# Altium schematic symbol library texas_insturments_interface_LVDS.SchLib: 2 symbols
Pins are listed as number, name and electrical type; pins without a type are passive.

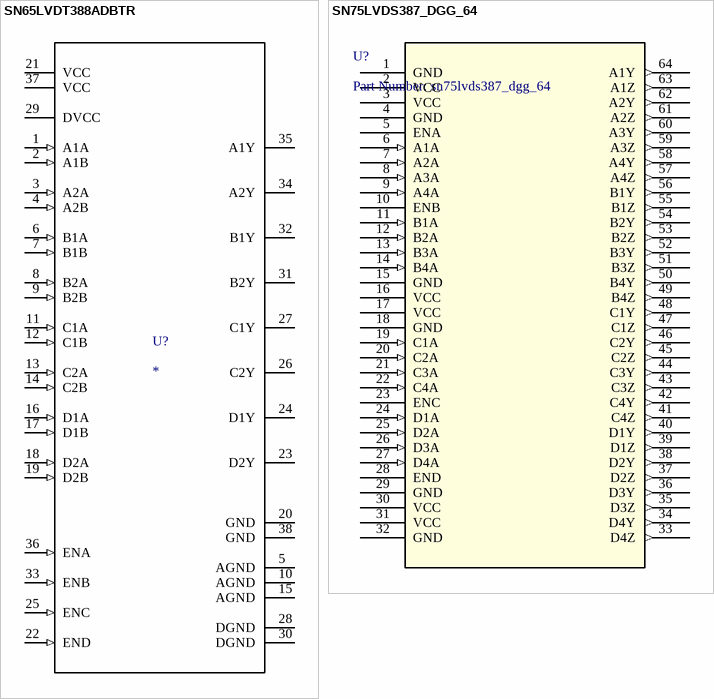
[diagram p0: symbols SN65LVDT388ADBTR to SN75LVDS387_DGG_64]

## SN65LVDT388ADBTR
designator U?
IC OCTAL LVDS RECEIVER 38-TSSOP; Manufacturer: Texas Instruments; PartNumber: SN65LVDT388ADBTR; Manufacturer Part Number: SN65LVDT388ADBT; Pricing1: Price Break  Unit Price  Extended Price  1  6.13000  $6.13  10  5.51000  $55.10  50  5.20880  $260.44  100  4.51430  $451.43  500  3.84290  $1,921.45  1,000  3.24100  $3,241.00  2,500  3.07895  $7,697.38 (CAD); RefDes: RefDes; Type: DEV; Value: Value; Copyright: Copyright (C) 2018 Accelerated Designs. All rights reserved; Manufacturer Link: http://www.ti.com/product/SN65LVDT388A?keyMatch=SN65LVDT388A&tisearch=Search-EN-Products; Supplier 1: Digikey; Supplier Part Number 1: 296-6899-5-ND; Supplier Link 1: https://www.digikey.com/products/en?mpart=SN65LVDT388ADBT&v=296; Stock1: 5,642
footprint DBT0038A_N
pins: 1 A1A (in), 2 A1B (in), 3 A2A (in), 4 A2B (in), 5 AGND (power), 6 B1A (in), 7 B1B (in), 8 B2A (in), 9 B2B (in), 10 AGND (power), 11 C1A (in), 12 C1B (in), 13 C2A (in), 14 C2B (in), 15 AGND (power), 16 D1A (in), 17 D1B (in), 18 D2A (in), 19 D2B (in), 20 GND (power), 21 VCC (power), 22 END (in), 23 D2Y (hiz), 24 D1Y (hiz), 25 ENC (in), 26 C2Y (hiz), 27 C1Y (hiz), 28 DGND (power), 29 DVCC (power), 30 DGND (power), 31 B2Y (hiz), 32 B1Y (hiz), 33 ENB (in), 34 A2Y (hiz), 35 A1Y (hiz), 36 ENA (in), 37 VCC (power), 38 GND (power)

## SN75LVDS387_DGG_64
designator U?, comment Part Number: sn75lvds387_dgg_64
16-Channel LVDS Transmitter; Manufacturer: Texas Instruments; Manufacturer Part Number: SN75LVDS387DGG; INDUSTRY_STD_PKG_TYPE: TSSOP; FAMILY_NAME: LVDS PHY (<800MBPS); PIN_COUNT: 64; PACKAGE_DESIGNATOR: DGG; Pricing1: Price Break  Unit Price  Extended Price  1  11.73000  $11.73  10  10.59500  $105.95  25  10.10240  $252.56  100  8.77180  $877.18  500  7.63840  $3,819.20  1,000  6.65280  $6,652.80 (CAD); Datasheet_URL: http://www.ti.com/lit/gpn/SN75LVDS387; GENERIC_PART_NUMBER: SN75LVDS387; Vendor: Texas Instruments; Manufacturer_Part_Number: sn75lvds387_dgg_64; Copyright: Copyright (C) 2018 Accelerated Designs. All rights reserved; RefDes: RefDes; Type: DEV; Value: Value; Manufacturer Link: http://www.ti.com/product/SN75LVDS387; Supplier 1: Digikey; Supplier Part Number 1: 296-2367-5-ND; Supplier Link 1: https://www.digikey.com/products/en?mpart=SN75LVDS387DGG&v=296; Stock1: 3,375
footprint DGG64
pins: 1 GND (power), 2 VCC (power), 3 VCC (power), 4 GND (power), 5 ENA, 6 A1A (in), 7 A2A (in), 8 A3A (in), 9 A4A (in), 10 ENB, 11 B1A (in), 12 B2A (in), 13 B3A (in), 14 B4A (in), 15 GND (power), 16 VCC (power), 17 VCC (power), 18 GND (power), 19 C1A (in), 20 C2A (in), 21 C3A (in), 22 C4A (in), 23 ENC, 24 D1A (in), 25 D2A (in), 26 D3A (in), 27 D4A (in), 28 END, 29 GND (power), 30 VCC (power), 31 VCC (power), 32 GND (power), 33 D4Z (out), 34 D4Y (out), 35 D3Z (out), 36 D3Y (out), 37 D2Z (out), 38 D2Y (out), 39 D1Z (out), 40 D1Y (out), 41 C4Z (out), 42 C4Y (out), 43 C3Z (out), 44 C3Y (out), 45 C2Z (out), 46 C2Y (out), 47 C1Z (out), 48 C1Y (out), 49 B4Z (out), 50 B4Y (out), 51 B3Z (out), 52 B3Y (out), 53 B2Z (out), 54 B2Y (out), 55 B1Z (out), 56 B1Y (out), 57 A4Z (out), 58 A4Y (out), 59 A3Z (out), 60 A3Y (out), 61 A2Z (out), 62 A2Y (out), 63 A1Z (out), 64 A1Y (out)